# Altium schematic symbol library IC.SCHLIB: 16 symbols
Pins are listed as number, name and electrical type; pins without a type are passive.

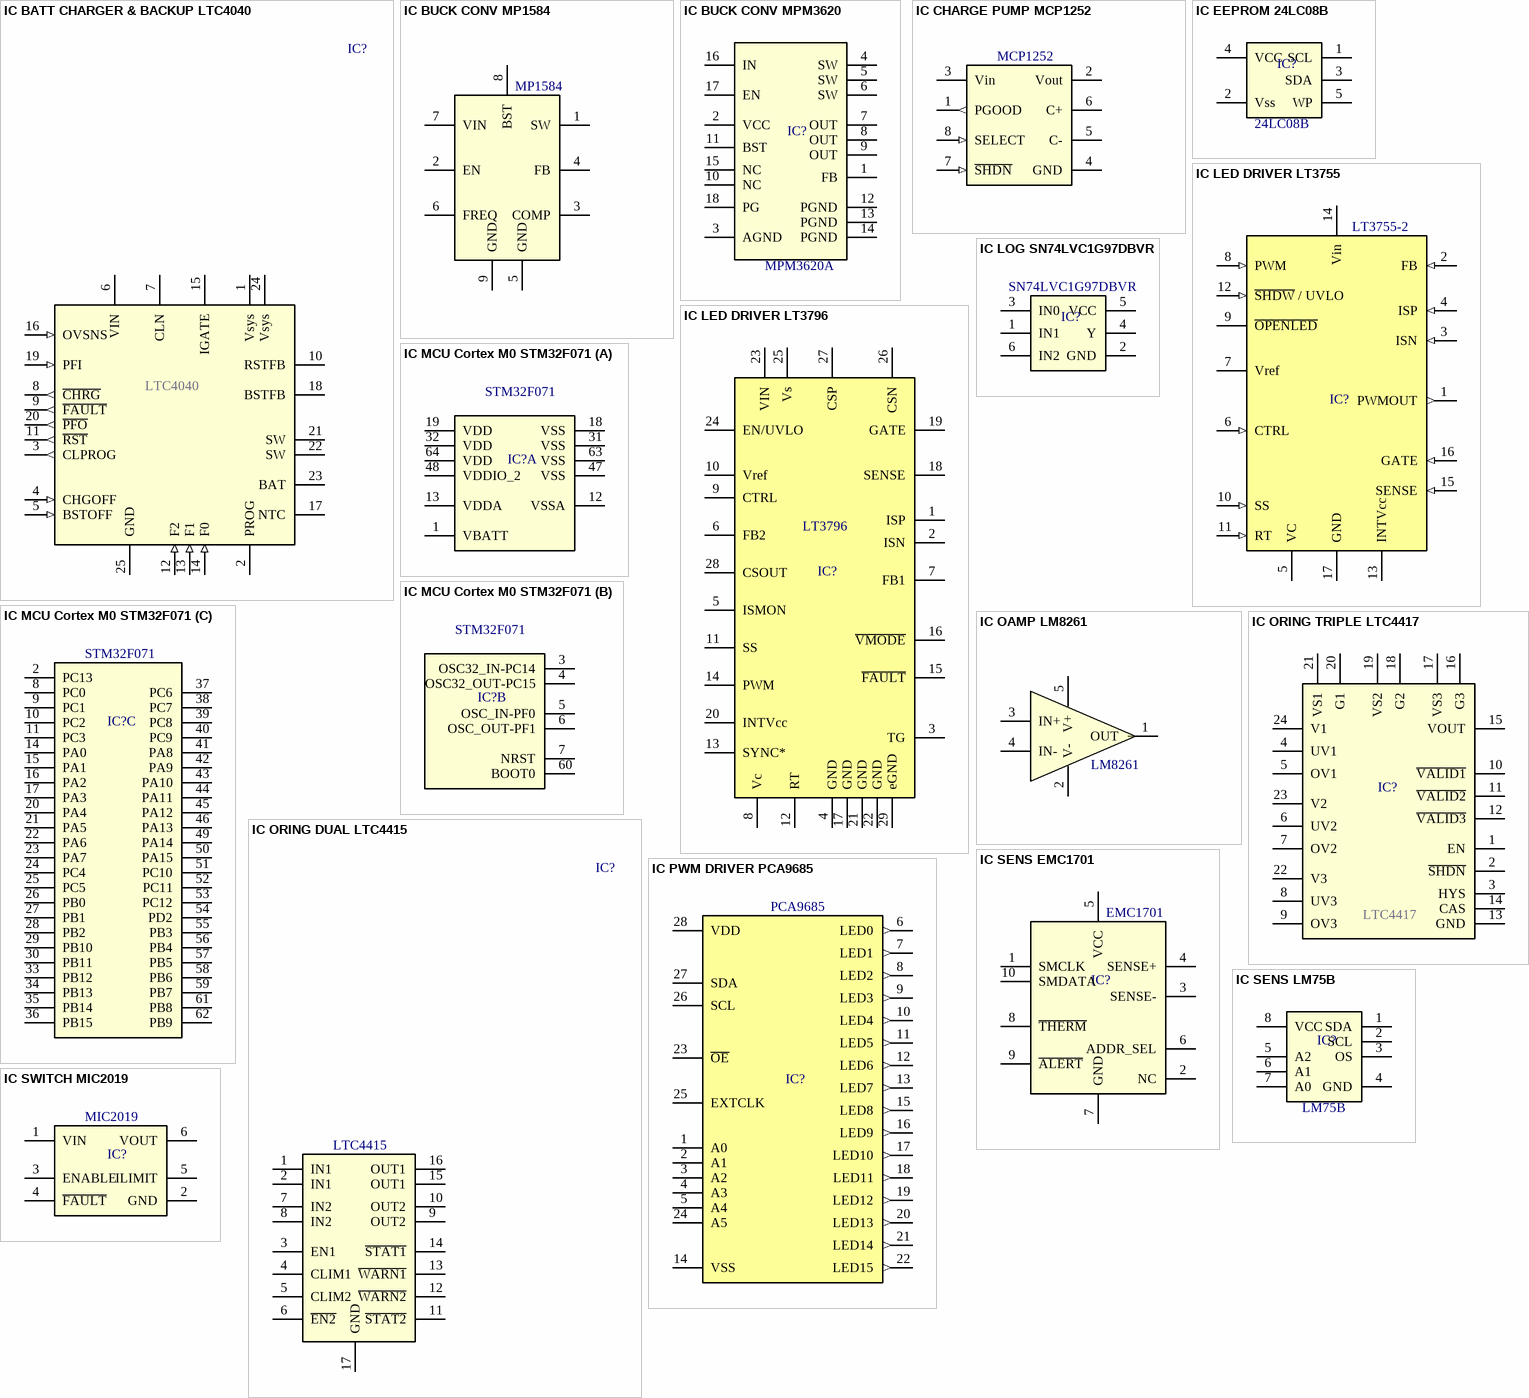
[diagram p0: symbols IC BATT CHARGER & BACKUP LTC4040 to IC SWITCH MIC2019]

## IC BATT CHARGER & BACKUP LTC4040
designator IC?  Type: LTC4040
BATTERY CHARGER AND BACKUP, 4.5-5.5Vin, 2.5A; OrderCode: LTC4040IUFD#PBF; ComponentLink1Description: Datasheet; ComponentLink2Description: Farnell; ComponentLink1URL: https://github.com/liparrok/Altium/blob/master/Libraries/Datasheet/LTC4040.pdf; ComponentLink2URL: http://si.farnell.com/linear-technology/ltc4040iufd-pbf/batt-charger-li-ion-lifepo4-2/dp/2483314; Other: *; Value: *
pins: 1 Vsys, 2 PROG, 3 CLPROG (out), 4 CHGOFF (in), 5 BSTOFF (in), 6 VIN, 7 CLN, 8 ~{CHRG} (out), 9 ~{FAULT} (out), 10 RSTFB, 11 ~{RST} (out), 12 F2 (in), 13 F1 (in), 14 F0 (in), 15 IGATE, 16 OVSNS (in), 17 NTC, 18 BSTFB, 19 PFI (in), 20 ~{PFO} (out), 21 SW, 22 SW, 23 BAT, 24 Vsys, 25 GND

## IC BUCK CONV MP1584
designator IC?  Type: MP1584
IC BUCK CONV, 4.5-28Vin, 3A; OrderCode: MP1584EN-LF; ComponentLink1Description: Datasheet; ComponentLink2Description: Mouser; ComponentLink1URL: https://github.com/liparrok/Altium/blob/master/Libraries/Datasheet/mp1584.pdf; ComponentLink2URL: http://eu.mouser.com/ProductDetail/Monolithic-Power-Systems-MPS/MP1584EN-LF/?qs=rC7bBWoQAAm4rmSVaZr4rw%3D%3D; Other: *; Value: *
pins: 1 SW (power), 2 EN (power), 3 COMP (power), 4 FB (power), 5 GND (power), 6 FREQ (power), 7 VIN (power), 8 BST (power), 9 GND (power)

## IC BUCK CONV MPM3620
designator IC?  Type: MPM3620A
INTEGRATED BUCK CONV 4,5-24Vin 2A; OrderCode: MPM3620AGQV-P; ComponentLink1Description: Datasheet; ComponentLink2Description: Digikey; ComponentLink1URL: https://github.com/liparrok/Altium/blob/master/Libraries/Datasheet/MPM3620A.pdf; ComponentLink2URL: http://www.digikey.com/product-detail/en/MPM3620AGQV-P/1589-1251-1-ND/5298338?WT.z_cid=ref_octopart_dkc_buynow&site=us; Other: *; Value: *
pins: 1 FB, 2 VCC, 3 AGND, 4 SW, 5 SW, 6 SW, 7 OUT, 8 OUT, 9 OUT, 10 NC, 11 BST, 12 PGND, 13 PGND, 14 PGND, 15 NC, 16 IN, 17 EN, 18 PG

## IC CHARGE PUMP MCP1252
designator IC?  Type: MCP1252
CHARGE PUMP, BUCK-BOOST, 2-5.5Vin, 3.3Vout, 120mA,; OrderCode: MCP1252-33X50I/MS; ComponentLink1Description: Datasheet; ComponentLink2Description: Farnell; ComponentLink1URL: https://github.com/liparrok/Altium/blob/master/Libraries/Datasheet/MCP1252.pdf; ComponentLink2URL: http://si.farnell.com/microchip/mcp1252-33x50i-ms/ic-charge-pump-120ma-smd-msop8/dp/1332064; Other: *; Value: *
pins: 1 PGOOD (out), 2 Vout (power), 3 Vin (power), 4 GND (power), 5 C-, 6 C+, 7 ~{SHDN} (in), 8 SELECT (in)

## IC EEPROM 24LC08B
designator IC?  Type: 24LC08B
IC EEPROM 8Kbit; OrderCode: 24LC08B-I/OT; ComponentLink1Description: Datasheet; ComponentLink2Description: Farnell; ComponentLink1URL: https://github.com/liparrok/Altium/blob/master/Libraries/Datasheet/24LC08B.pdf; ComponentLink2URL: http://si.farnell.com/microchip/24lc08bt-i-ot/serial-eeprom-8kbit-400khz-sot/dp/1556163; Other: *; Value: *
pins: 1 SCL, 2 Vss, 3 SDA, 4 VCC, 5 WP

## IC LED DRIVER LT3755
designator IC?  Type: LT3755-2
LED DRIVER, 4.5-40Vin, 75Vout; OrderCode: LT3755EMSE-2#PBF; ComponentLink1URL: https://github.com/liparrok/Altium/blob/master/Libraries/Datasheet/LT3755.pdf; ComponentLink2URL: http://si.farnell.com/linear-technology/lt3755emse-pbf/ic-led-controller-msop-16/dp/1647746; Other: *; ComponentLink1Description: Datasheet; ComponentLink2Description: Farnell; Value: *
pins: 1 PWMOUT (out), 2 FB (in), 3 ISN (in), 4 ISP (in), 5 VC, 6 CTRL (in), 7 Vref (power) "Ref. voltage output", 8 PWM (in), 9 ~{OPE}~{NLED} (oc), 10 SS (in), 11 RT (in), 12 ~{SHDW} / UVLO (in), 13 INTVcc, 14 Vin (power), 15 SENSE (in), 16 GATE (in), 17 GND "ePAD"

## IC LED DRIVER LT3796
designator IC?  Type: LT3796
LED DRIVER, 6-100Vin, 100Vout; OrderCode: LT3796EFE#PBF; ComponentLink1URL: https://github.com/liparrok/Altium/blob/master/Libraries/Datasheet/LT3796fb.pdf; ComponentLink2URL: http://si.farnell.com/linear-technology/lt3796efe-pbf/pwm-cntrl-100vin-cc-cv-1mhz-28tssop/dp/2115922; Other: *; ComponentLink1Description: Datasheet; ComponentLink2Description: Farnell; Value: *
pins: 1 ISP, 2 ISN, 3 TG, 4 GND "ePAD", 5 ISMON "ePAD", 6 FB2 "ePAD", 7 FB1 "ePAD", 8 Vc "ePAD", 9 CTRL "ePAD", 10 Vref "ePAD", 11 SS "ePAD", 12 RT "ePAD", 13 SYNC* "ePAD", 14 PWM "ePAD", 15 ~{FAULT} "ePAD", 16 ~{VMODE} "ePAD", 17 GND "ePAD", 18 SENSE "ePAD", 19 GATE "ePAD", 20 INTVcc "ePAD", 21 GND "ePAD", 22 GND "ePAD", 23 VIN "ePAD", 24 EN/UVLO "ePAD", 25 Vs "ePAD", 26 CSN "ePAD", 27 CSP "ePAD", 28 CSOUT "ePAD", 29 eGND "ePAD"

## IC LOG SN74LVC1G97DBVR
designator IC?  Type: SN74LVC1G97DBVR
IC LOG, MULTI FUNCTION LOGIC GATE; ComponentLink1Description: Datasheet; ComponentLink2Description: Farnell; ComponentLink1URL: https://github.com/liparrok/Altium/blob/master/Libraries/Datasheet/SN74LVC1G97DBVR.pdf; ComponentLink2URL: http://si.farnell.com/texas-instruments/sn74lvc1g97dbvr/multi-function-gate-smd-sot-23/dp/1470837; OrderCode: SN74LVC1G97DBVR; Other: *; Value: *
pins: 1 IN1 (power), 2 GND, 3 IN0, 4 Y, 5 VCC, 6 IN2

## IC MCU Cortex M0 STM32F071
designator IC?  Type: STM32F071
Cortex M0, 128kFlash, 16kRam, 51IO, 2.3,6Vin, LQFP; OrderCode: STM32F071RBT6TR; ComponentLink1Description: Datasheet; ComponentLink2Description: Farnell; ComponentLink1URL: https://github.com/liparrok/Altium/blob/master/Libraries/Datasheet/STM32F071RB.pdf; ComponentLink2URL: http://si.farnell.com/stmicroelectronics/stm32f071rbt6tr/mcu-32bit-cortex-m0-48mhz-lqfp/dp/2488286; Other: *; Value: *; ComponentLink3Description: HW Development; ComponentLink4Description: Boot modes; ComponentLink3URL: https://github.com/liparrok/Altium/blob/master/Libraries/Datasheet/ST_AN4080_application_note.pdf; ComponentLink4URL: https://github.com/liparrok/Altium/blob/master/Libraries/Datasheet/ST_AN2606_application_note
part A pins: 1 VBATT (power), 12 VSSA (power), 13 VDDA (power), 18 VSS (power), 19 VDD (power), 31 VSS (power), 32 VDD (power), 47 VSS (power), 48 VDDIO_2 (power), 63 VSS (power), 64 VDD (power)
part B pins: 3 OSC32_IN-PC14, 4 OSC32_OUT-PC15, 5 OSC_IN-PF0, 6 OSC_OUT-PF1, 7 NRST, 60 BOOT0
part C pins: 2 PC13, 8 PC0, 9 PC1, 10 PC2, 11 PC3, 14 PA0, 15 PA1, 16 PA2, 17 PA3, 20 PA4, 21 PA5, 22 PA6, 23 PA7, 24 PC4, 25 PC5, 26 PB0, 27 PB1, 28 PB2, 29 PB10, 30 PB11, 33 PB12, 34 PB13, 35 PB14, 36 PB15, 37 PC6, 38 PC7, 39 PC8, 40 PC9, 41 PA8, 42 PA9, 43 PA10, 44 PA11, 45 PA12, 46 PA13, 49 PA14, 50 PA15, 51 PC10, 52 PC11, 53 PC12, 54 PD2, 55 PB3, 56 PB4, 57 PB5, 58 PB6, 59 PB7, 61 PB8, 62 PB9

## IC OAMP LM8261
designator IC?  Type: LM8261
IC OAPM,  2.5V to 30V, 21Mhz, Single; OrderCode: LM8261M5; ComponentLink1Description: Datasheet; ComponentLink2Description: Farnell; ComponentLink1URL: https://github.com/liparrok/Altium/blob/master/Libraries/Datasheet/lm8261.pdf; ComponentLink2URL: http://si.farnell.com/texas-instruments/lm8261m5/op-amp-high-o-p-rri-o-smd-8261/dp/9778853; Other: *; Value: *
pins: 1 OUT (power), 2 V- (power), 3 IN+ (power), 4 IN- (power), 5 V+ (power)

## IC ORING DUAL LTC4415
designator IC?  Type: LTC4415
IC ORING DUAL 4A, 1.7-5.5Vin, Adjustable current; OrderCode: LTC4415EMSE#PBF; ComponentLink1Description: Datasheet; ComponentLink2Description: Digikey; ComponentLink1URL: https://github.com/liparrok/Altium/blob/master/Libraries/Datasheet/LTC4415.pdf; ComponentLink2URL: http://www.digikey.com/product-detail/en/linear-technology/LTC4415EMSE%23PBF/LTC4415EMSE%23PBF-ND/2769860; Other: *; Value: *
pins: 1 IN1 (power), 2 IN1 (power), 3 EN1 (power), 4 CLIM1 (power), 5 CLIM2 (power), 6 ~{EN2} (power), 7 IN2 (power), 8 IN2 (power), 9 OUT2 (power), 10 OUT2 (power), 11 ~{STAT2} (power), 12 ~{WARN2} (power), 13 ~{WARN1} (power), 14 ~{STAT1} (power), 15 OUT1 (power), 16 OUT1 (power), 17 GND (power)

## IC ORING TRIPLE LTC4417
designator IC?  Type: LTC4417
IC ORING TRIPLE POWERPATH, 2,5-36Vin; OrderCode: LTC4417CGN#PBF; ComponentLink1Description: Datasheet; ComponentLink2Description: Farnell; ComponentLink1URL: https://github.com/liparrok/Altium/blob/master/Libraries/Datasheet/LTC4417.pdf; ComponentLink2URL: http://si.farnell.com/linear-technology/ltc4417cgn-pbf/sequencer-triple-supply-36v-24ssop/dp/2293161; Other: *; Value: *
pins: 1 EN (power), 2 ~{SHDN} (power), 3 HYS (power), 4 UV1 (power), 5 OV1 (power), 6 UV2 (power), 7 OV2 (power), 8 UV3 (power), 9 OV3 (power), 10 ~{VALID1} (power), 11 ~{VALID2} (power), 12 ~{VALID3} (power), 13 GND (power), 14 CAS (power), 15 VOUT (power), 16 G3 (power), 17 VS3 (power), 18 G2 (power), 19 VS2 (power), 20 G1 (power), 21 VS1 (power), 22 V3 (power), 23 V2 (power), 24 V1 (power)

## IC PWM DRIVER PCA9685
designator IC?  Type: PCA9685
PWM DRIVER, 2.3-5.5V, 16channel, 12bit, 30mA sink; OrderCode: PCA9685PW; ComponentLink1URL: https://github.com/liparrok/Altium/blob/master/Libraries/Datasheet/NXP_PCA9685.pdf; ComponentLink2URL: http://si.farnell.com/nxp/pca9685pw/ic-led-driver-rgba-28-tssop/dp/1854074; Other: *; ComponentLink1Description: Datasheet; ComponentLink2Description: Farnell; Value: *
footprint Model Name (Footprint not found)
pins: 1 A0 (power) "Ref. voltage output", 2 A1 (power) "Ref. voltage output", 3 A2 (power) "Ref. voltage output", 4 A3 (power) "Ref. voltage output", 5 A4 (power) "Ref. voltage output", 6 LED0 (out), 7 LED1 (out), 8 LED2 (out), 9 LED3 (out), 10 LED4 (out), 11 LED5 (out), 12 LED6 (out), 13 LED7 (out), 14 VSS "ePAD", 15 LED8 (out), 16 LED9 (out), 17 LED10 (out), 18 LED11 (out), 19 LED12 (out), 20 LED13 (out), 21 LED14 (out), 22 LED15 (out), 23 ~{OE}, 24 A5, 25 EXTCLK "ePAD", 26 SCL "ePAD", 27 SDA "ePAD", 28 VDD "ePAD"

## IC SENS EMC1701
designator IC?  Type: EMC1701
IC CURRENT SENSOR 24V; OrderCode: EMC1701-2-AIZL-TR; ComponentLink1Description: Datasheet; ComponentLink2Description: Farnell; ComponentLink1URL: https://github.com/liparrok/Altium/blob/master/Libraries/Datasheet/EMC1701.pdf; ComponentLink2URL: http://si.farnell.com/microchip/emc1701-2-aizl-tr/current-sensor-high-side-msop/dp/2361959; Other: *; Value: *
pins: 1 SMCLK, 2 NC, 3 SENSE-, 4 SENSE+, 5 VCC (power), 6 ADDR_SEL, 7 GND, 8 ~{THERM}, 9 ~{ALERT}, 10 SMDATA

## IC SENS LM75B
designator IC?  Type: LM75B
IC SENS TEMP -55 to 125°C, +-2°C; OrderCode: LM75BDP; ComponentLink1Description: Datasheet; ComponentLink2Description: Farnell; ComponentLink1URL: https://github.com/liparrok/Altium/blob/master/Libraries/Datasheet/LM75B.pdf; ComponentLink2URL: http://si.farnell.com/nxp/lm75bdp-118/temperature-sensor-3deg-cel-tssop/dp/2396742; Other: *; Value: *
pins: 1 SDA, 2 SCL, 3 OS, 4 GND, 5 A2, 6 A1, 7 A0, 8 VCC

## IC SWITCH MIC2019
designator IC?  Type: MIC2019
IC USB SWITCH, 5V, 2A; OrderCode: MIC2019YM6-TR; ComponentLink1Description: Datasheet; ComponentLink2Description: Digikey; ComponentLink1URL: https://github.com/liparrok/Altium/blob/master/Libraries/Datasheet/mic20xx.pdf; ComponentLink2URL: http://www.digikey.com/product-detail/en/microchip-technology/MIC2019YM6-TR/576-2595-1-ND/1821755; Other: *; Value: *
pins: 1 VIN (power), 2 GND, 3 ENABLE, 4 ~{FAULT}, 5 ILIMIT, 6 VOUT